# Altium schematic symbol library BGT60TR13C.SchLib: 1 symbol
Pins are listed as number, name and electrical type; pins without a type are passive.

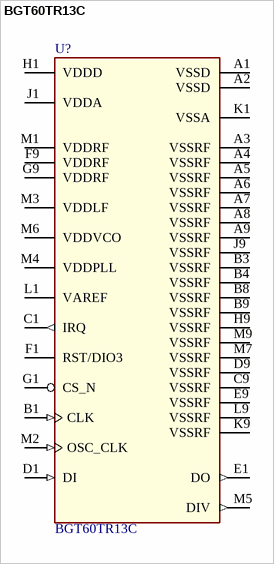
[diagram p0: symbol BGT60TR13C]

## BGT60TR13C
designator U?
Radar Sensor for FMCW Operation; Manufacturer: Infineon Technologies; Manufacturer Order Number: BGT60TR13C; PackageReference: PG-VF2BGA-40-1
pins: A1 VSSD (power) "Digital ground connection", A2 VSSD (power) "Digital ground connection", A3 VSSRF (power) "Analog ground connection", A4 VSSRF (power) "Analog ground connection", A5 VSSRF (power) "Analog ground connection", A6 VSSRF (power) "Analog ground connection", A7 VSSRF (power) "Analog ground connection", A8 VSSRF (power) "Analog ground connection", A9 VSSRF (power) "Analog ground connection", B1 CLK (in) "SPI CLK input", B3 VSSRF (power) "Analog ground connection", B4 VSSRF (power) "Analog ground connection", B8 VSSRF (power) "Analog ground connection", B9 VSSRF (power) "Analog ground connection", C1 IRQ (out) "Interrupt output", C9 VSSRF (power) "Analog ground connection", D1 DI (in) "SPI signal from the host output", D9 VSSRF (power) "Analog ground connection", E1 DO (out) "SPI signal to the host input", E9 VSSRF (power) "Analog ground connection", F1 RST/DIO3  "HW reset pin", F9 VDDRF (power) "Analog supply voltage", G1 CS_N "SPI chip select input, active low", G9 VDDRF (power) "Analog supply voltage", H1 VDDD (power) "Digital supply voltage", H9 VSSRF (power) "Analog ground connection", J1 VDDA (power) "Analog supply voltage", J9 VSSRF (power) "Analog ground connection", K1 VSSA (power) "Analog ground connection", K9 VSSRF (power) "Analog ground connection", L1 VAREF (power) "Positive reference voltage output", L9 VSSRF (power) "Analog ground connection", M1 VDDRF (power) "Analog supply voltage", M2 OSC_CLK (in) "Xtal input", M3 VDDLF (power) "Analog supply voltage for the level shifter for the PLL loop filter", M4 VDDPLL (power) "Analog supply voltage to the PLL", M5 DIV (out) "VCO divided by 16 output", M6 VDDVCO (power) "Analog supply voltage to the VCO", M7 VSSRF (power) "Analog ground connection", M9 VSSRF (power) "Analog ground connection"